# EAGLE library part FSI-105-10-L-D-AD (library C3-Layout)
10 Position FSI PCB pattern
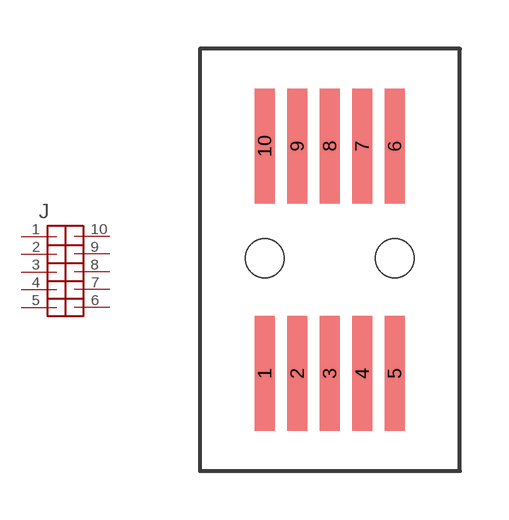
[diagram p0: symbol with the pads of FSI-105-D-AD-PCBMATE; footprint FSI-105-D-AD-PCBMATE]

Designator prefix J

## FSI-105-10-L-D-AD105AD  [FSI-105-D-AD-PCBMATE]
1  1
2  2
3  3
4  4
5  5
6  6
7  7
8  8
9  9
10  10

## Footprint FSI-105-D-AD-PCBMATE (pad centres in mm)
smd 0.61 x 3.55: 1 0,0; 2 1,0; 3 2,0; 4 3,0; 5 4,0; 6 4,7; 7 3,7; 8 2,7; 9 1,7; 10 0,7
hole 1.19 at 0,3.55
hole 1.19 at 4,3.55